# Altium footprint library DPAK8P127_1500X440L270X60T755X850N.PcbLib: 1 footprints
Each footprint in its own frame and in the unit in brackets; x right, y up, seen from the top. Pads: shape width x height; smd on the part's side, far side on the other; paste and mask are expansions set on the pad; w line width, h text height; cw(c..) or ccw(c..) is an arc to the next point about the centre after c.
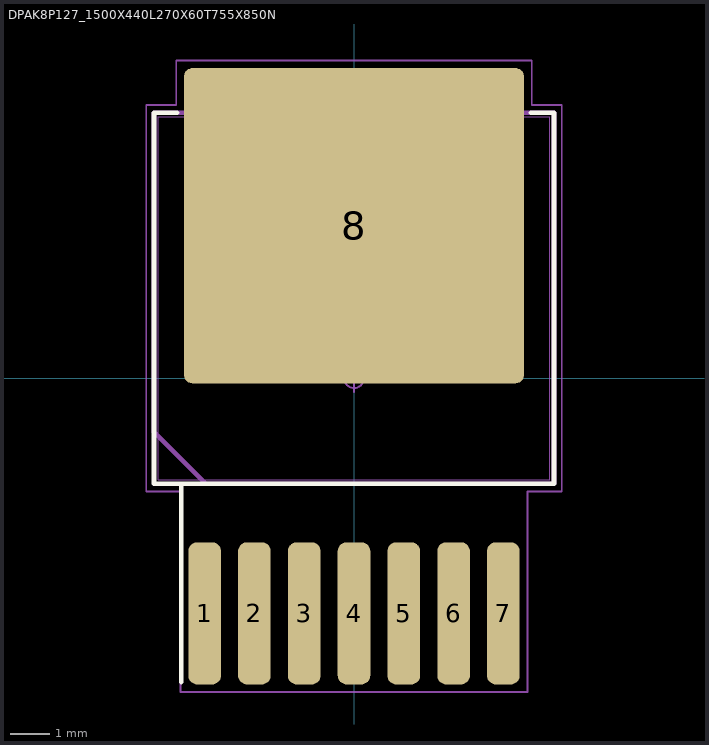
[diagram p0: the footprint, top view; thin cyan lines are the x and y axes]

## DPAK8P127_1500X440L270X60T755X850N [mm] "DPAK, 1.27 mm pitch; 7 pin, 9.25 mm L X 10.00 mm W X 4.40 mm H body"
height 4.4
pads (8):
  rrect51% 0.83x3.62 smd: 1(-3.81,-6) 2(-2.54,-6) 3(-1.27,-6) 4(0,-6) 5(1.27,-6) 6(2.54,-6) 7(3.81,-6)
  rrect5% 8.67x8.04 smd paste-8.67: 8(0,3.89)
Top Overlay:
  lines w0.12: -4.515,6.77 -5.1,6.77 -5.1,-2.69 5.1,-2.69 5.1,6.77 4.515,6.77 ; -4.41,-7.75 -4.41,-2.69
Top Paste:
  region: 4.105,0.175 2.855,0.175 2.855,1.575 4.105,1.575
  region: 4.105,2.185 2.855,2.185 2.855,3.585 4.105,3.585
  region: 4.105,4.195 2.855,4.195 2.855,5.595 4.105,5.595
  region: 4.105,6.205 2.855,6.205 2.855,7.605 4.105,7.605
  region: 2.365,0.175 1.115,0.175 1.115,1.575 2.365,1.575
  region: 2.365,2.185 1.115,2.185 1.115,3.585 2.365,3.585
  region: 2.365,4.195 1.115,4.195 1.115,5.595 2.365,5.595
  region: 2.365,6.205 1.115,6.205 1.115,7.605 2.365,7.605
  region: 0.625,0.175 -0.625,0.175 -0.625,1.575 0.625,1.575
  region: 0.625,2.185 -0.625,2.185 -0.625,3.585 0.625,3.585
  region: 0.625,4.195 -0.625,4.195 -0.625,5.595 0.625,5.595
  region: 0.625,6.205 -0.625,6.205 -0.625,7.605 0.625,7.605
  region: -1.115,0.175 -2.365,0.175 -2.365,1.575 -1.115,1.575
  region: -1.115,2.185 -2.365,2.185 -2.365,3.585 -1.115,3.585
  region: -1.115,4.195 -2.365,4.195 -2.365,5.595 -1.115,5.595
  region: -1.115,6.205 -2.365,6.205 -2.365,7.605 -1.115,7.605
  region: -2.855,0.175 -4.105,0.175 -4.105,1.575 -2.855,1.575
  region: -2.855,2.185 -4.105,2.185 -4.105,3.585 -2.855,3.585
  region: -2.855,4.195 -4.105,4.195 -4.105,5.595 -2.855,5.595
  region: -2.855,6.205 -4.105,6.205 -4.105,7.605 -2.855,7.605
Mechanical 3:
  lines w0.12: -5.1,-1.377 -5.1,6.77 5.1,6.77 5.1,-2.69 -3.787,-2.69 -5.1,-1.377
Mechanical 5:
  lines w0.025: -5,-2.585 -5,6.665 5,6.665 5,-2.585 -5,-2.585 ; -4.25,-0.05 4.25,-0.05 4.25,7.5 -4.25,7.5 -4.25,-0.05 ; -4.11,-7.5 -3.51,-7.5 -3.51,-4.8 -4.11,-4.8 -4.11,-7.5 ; -2.84,-7.5 -2.24,-7.5 -2.24,-4.8 -2.84,-4.8 -2.84,-7.5 ; -1.57,-7.5 -0.97,-7.5 -0.97,-4.8 -1.57,-4.8 -1.57,-7.5 ; -0.3,-7.5 0.3,-7.5 0.3,-4.8 -0.3,-4.8 -0.3,-7.5 ; 0.97,-7.5 1.57,-7.5 1.57,-4.8 0.97,-4.8 0.97,-7.5 ; 2.24,-7.5 2.84,-7.5 2.84,-4.8 2.24,-4.8 2.24,-7.5 ; 3.51,-7.5 4.11,-7.5 4.11,-4.8 3.51,-4.8 3.51,-7.5
Mechanical 7:
  circle w0.05: c0,0 r0.25
  lines w0.05: -0.35,0 0.35,0 ; 0,-0.35 0,0.35 ; -5.3,-2.89 -5.3,6.97 -4.535,6.97 -4.535,8.11 4.535,8.11 4.535,6.97 5.3,6.97 5.3,-2.89 4.425,-2.89 4.425,-8.01 -4.425,-8.01 -4.425,-2.89 -5.3,-2.89
Mechanical 9:
  text "'.Designator'" at -5.334,-2.286 h1
3D body "DPAK8P127_1500X440L270X60T755X850.STEP": height 4.4, standoff 0, extent -5,-7.5 5,7.5
3D body: height 1.04, standoff 0, extent -5.3,-8.01 5.3,8.11